# Altium footprint library 1-1571983-0.PcbLib: 1 footprints
Each footprint in its own frame and in the unit in brackets; x right, y up, seen from the top. Pads: shape width x height; smd on the part's side, far side on the other; paste and mask are expansions set on the pad; w line width, h text height; cw(c..) or ccw(c..) is an arc to the next point about the centre after c.
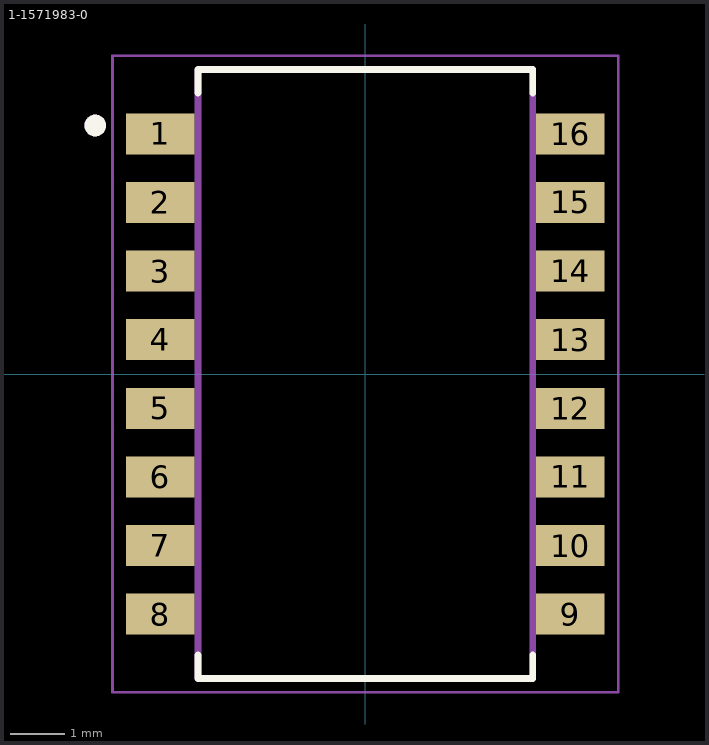
[diagram p0: the footprint, top view; thin cyan lines are the x and y axes]

## 1-1571983-0 [mm]
pads (16):
  rect 1.27x0.76 smd: 1(-3.795,4.445) 2(-3.795,3.175) 3(-3.795,1.905) 4(-3.795,0.635) 5(-3.795,-0.635) 6(-3.795,-1.905) 7(-3.795,-3.175) 8(-3.795,-4.445) 9(3.795,-4.445) 10(3.795,-3.175) 11(3.795,-1.905) 12(3.795,-0.635) 13(3.795,0.635) 14(3.795,1.905) 15(3.795,3.175) 16(3.795,4.445)
Top Overlay:
  circle w0.2: c-5,4.6 r0.1
  lines w0.127: -3.1,-5.2 -3.1,-5.64 3.1,-5.64 3.1,-5.2 ; -3.1,5.2 -3.1,5.64 3.1,5.64 3.1,5.2
Top 3D Body:
  circle w0.2: c-5,4.6 r0.1
  lines w0.127: -3.1,-5.64 -3.1,5.64 3.1,5.64 3.1,-5.64 -3.1,-5.64
Top Courtyard:
  lines w0.05: -4.68,-5.89 -4.68,5.89 4.68,5.89 4.68,-5.89 -4.68,-5.89
3D body "c-1571983-10-b-3d.stp": height 2.31, standoff 0, extent -4.064,-5.639 4.064,5.639